# EAGLE library part XC3S1500 (library untitled)
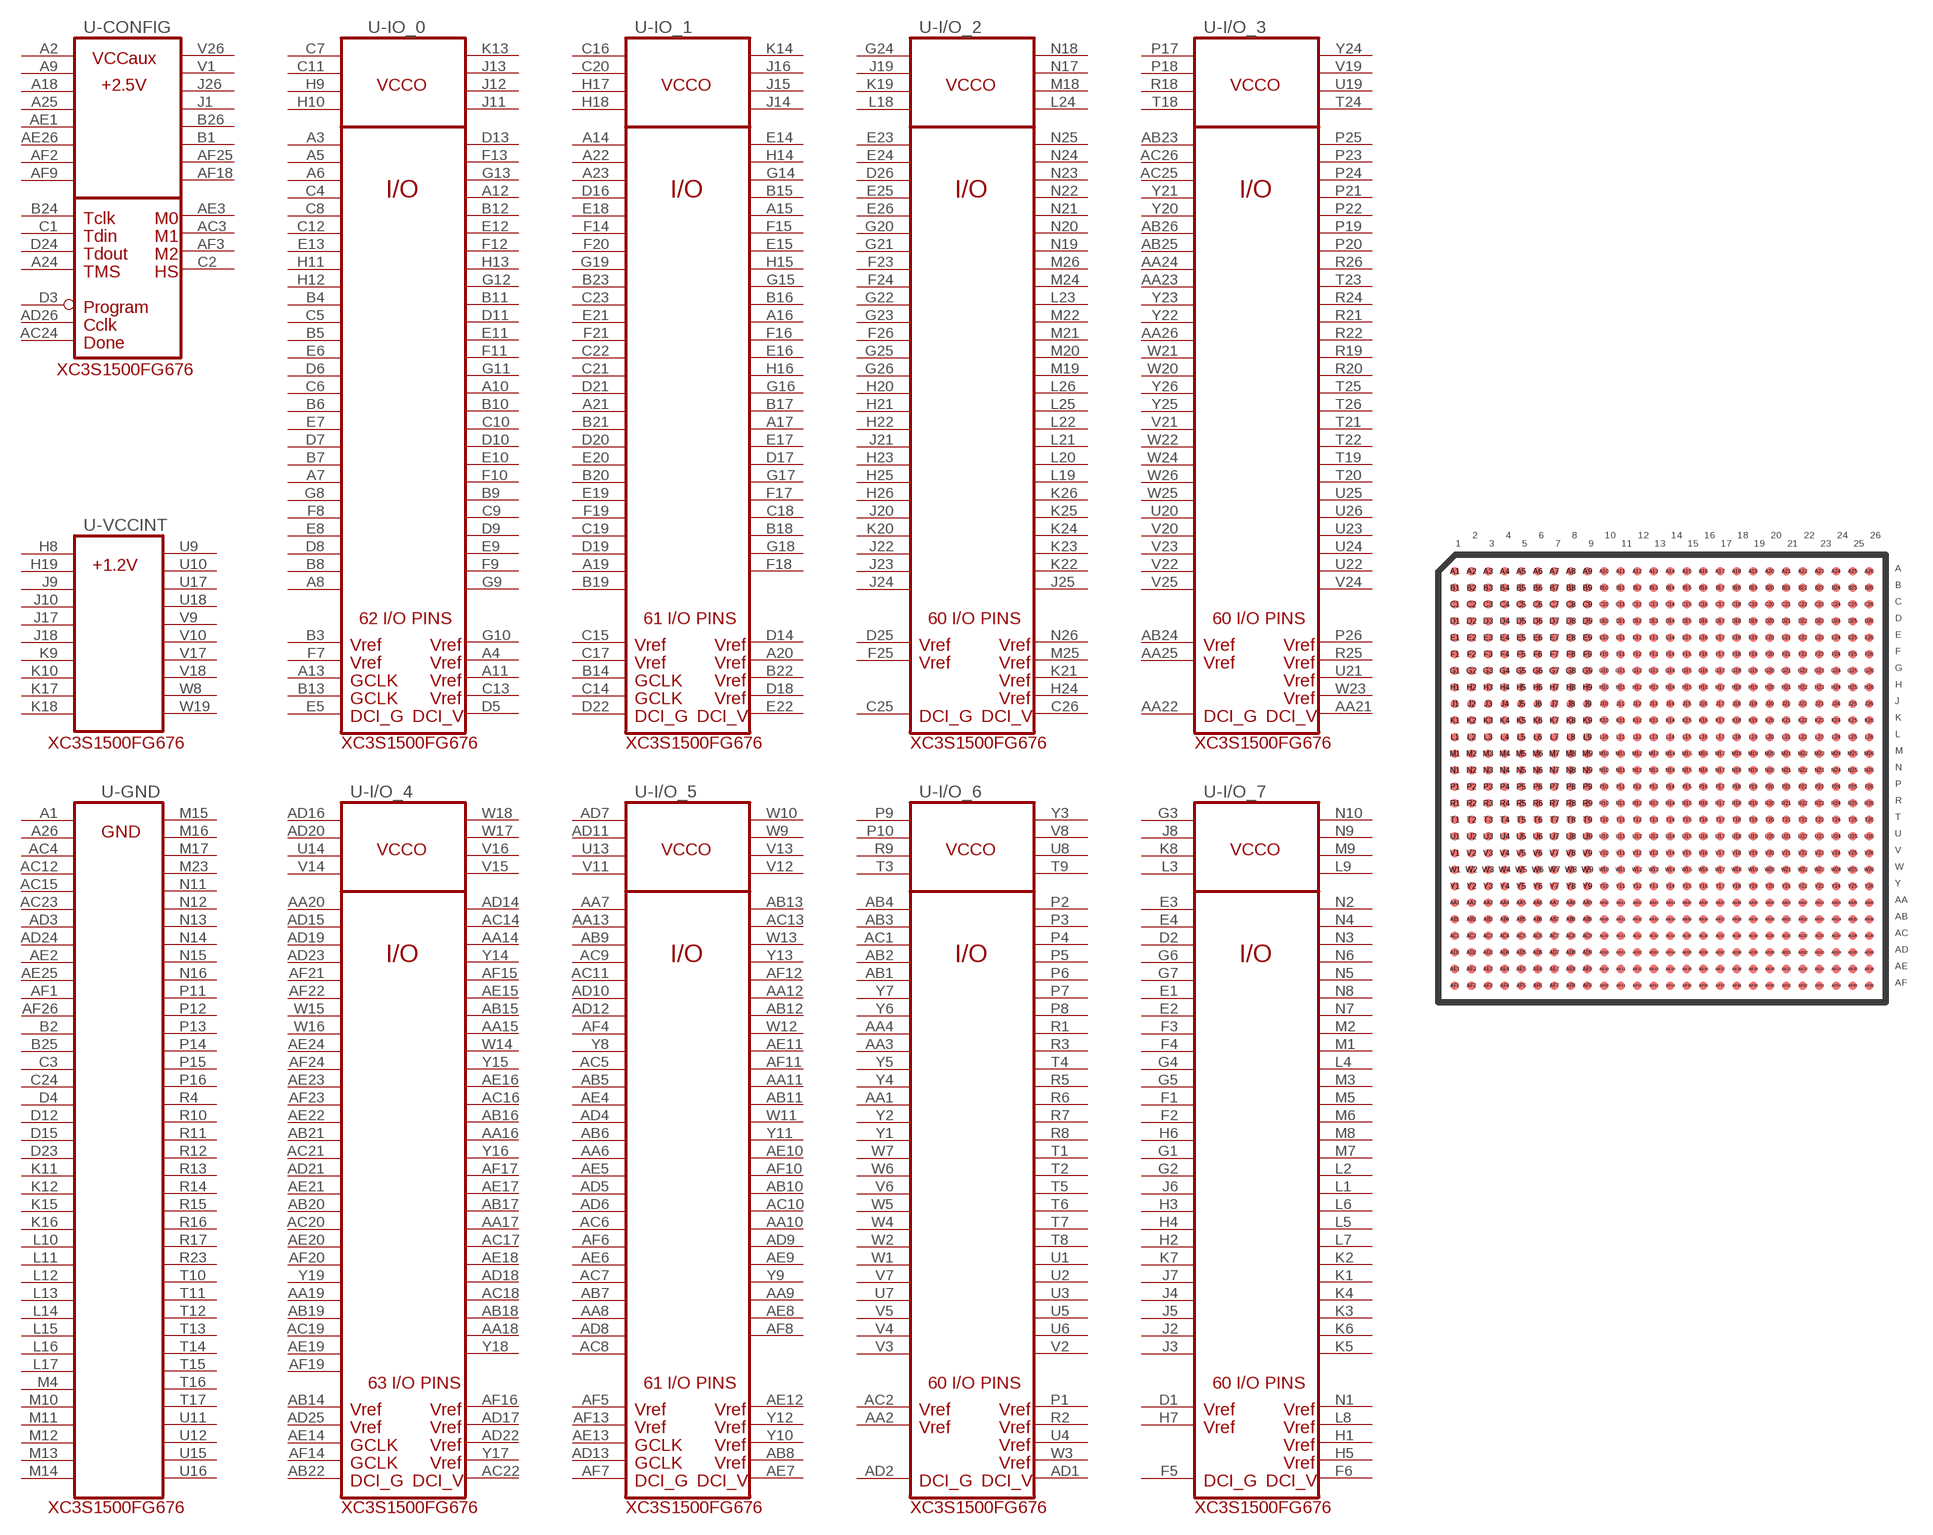
[diagram p0: symbol with the pads of FG676; footprint FG676]

Designator prefix -; gates -GND=XC3S1500_GND -VCCINT=XC3S1500_VCCINT -IO_0=XC3S1500_IO_0 -IO_1=XC3S1500_IO_1 -I/O_2=XC3S1500_IO_2 -I/O_3=XC3S1500_IO_3 -I/O_4=XC3S1500_IO_4 -I/O_5=XC3S1500_IO_5 -I/O_6=XC3S1500_IO_6 -I/O_7=XC3S1500_IO_7 -CONFIG=XC3S1500_CONFIG

## XC3S1500  [FG676]
A1  -GND:A1  pas
A2  -CONFIG:A2  pas
A3  -IO_0:A3  pas
A4  -IO_0:A4  pas
A5  -IO_0:A5  pas
A6  -IO_0:A6  pas
A7  -IO_0:A7  pas
A8  -IO_0:A8  pas
A9  -CONFIG:A9  pas
A10  -IO_0:A10  pas
A11  -IO_0:A11  pas
A12  -IO_0:A12  pas
A13  -IO_0:A13  pas
A14  -IO_1:A14  pas
A15  -IO_1:A15  pas
A16  -IO_1:A16  pas
A17  -IO_1:A17  pas
A18  -CONFIG:A18  pas
A19  -IO_1:A19  pas
A20  -IO_1:A20  pas
A21  -IO_1:A21  pas
A22  -IO_1:A22  pas
A23  -IO_1:A23  pas
A24  -CONFIG:A24  pas
A25  -CONFIG:A25  pas
A26  -GND:A26  pas
AA1  -I/O_6:AA1  pas
AA2  -I/O_6:AA2  pas
AA3  -I/O_6:AA3  pas
AA4  -I/O_6:AA4  pas
AA6  -I/O_5:AA6  pas
AA7  -I/O_5:AA7  pas
AA8  -I/O_5:AA8  pas
AA9  -I/O_5:AA9  pas
AA10  -I/O_5:AA10  pas
AA11  -I/O_5:AA11  pas
AA12  -I/O_5:AA12  pas
AA13  -I/O_5:AA13  pas
AA14  -I/O_4:AA14  pas
AA15  -I/O_4:AA15  pas
AA16  -I/O_4:AA16  pas
AA17  -I/O_4:AA17  pas
AA18  -I/O_4:AA18  pas
AA19  -I/O_4:AA19  pas
AA20  -I/O_4:AA20  pas
AA21  -I/O_3:AA21  pas
AA22  -I/O_3:AA22  pas
AA23  -I/O_3:AA23  pas
AA24  -I/O_3:AA24  pas
AA25  -I/O_3:AA25  pas
AA26  -I/O_3:AA26  pas
AB1  -I/O_6:AB1  pas
AB2  -I/O_6:AB2  pas
AB3  -I/O_6:AB3  pas
AB4  -I/O_6:AB4  pas
AB5  -I/O_5:AB5  pas
AB6  -I/O_5:AB6  pas
AB7  -I/O_5:AB7  pas
AB8  -I/O_5:AB8  pas
AB9  -I/O_5:AB9  pas
AB10  -I/O_5:AB10  pas
AB11  -I/O_5:AB11  pas
AB12  -I/O_5:AB12  pas
AB13  -I/O_5:AB13  pas
AB14  -I/O_4:AB14  pas
AB15  -I/O_4:AB15  pas
AB16  -I/O_4:AB16  pas
AB17  -I/O_4:AB17  pas
AB18  -I/O_4:AB18  pas
AB19  -I/O_4:AB19  pas
AB20  -I/O_4:AB20  pas
AB21  -I/O_4:AB21  pas
AB22  -I/O_4:AB22  pas
AB23  -I/O_3:AB23  pas
AB24  -I/O_3:AB24  pas
AB25  -I/O_3:AB25  pas
AB26  -I/O_3:AB26  pas
AC1  -I/O_6:AC1  pas
AC2  -I/O_6:AC2  pas
AC3  -CONFIG:AC3  pas
AC4  -GND:AC4  pas
AC5  -I/O_5:AC5  pas
AC6  -I/O_5:AC6  pas
AC7  -I/O_5:AC7  pas
AC8  -I/O_5:AC8  pas
AC9  -I/O_5:AC9  pas
AC10  -I/O_5:AC10  pas
AC11  -I/O_5:AC11  pas
AC12  -GND:AC12  pas
AC13  -I/O_5:AC13  pas
AC14  -I/O_4:AC14  pas
AC15  -GND:AC15  pas
AC16  -I/O_4:AC16  pas
AC17  -I/O_4:AC17  pas
AC18  -I/O_4:AC18  pas
AC19  -I/O_4:AC19  pas
AC20  -I/O_4:AC20  pas
AC21  -I/O_4:AC21  pas
AC22  -I/O_4:AC22  pas
AC23  -GND:AC23  pas
AC24  -CONFIG:AC24  pas
AC25  -I/O_3:AC25  pas
AC26  -I/O_3:AC26  pas
AD1  -I/O_6:AD1  pas
AD2  -I/O_6:AD2  pas
AD3  -GND:AD3  pas
AD4  -I/O_5:AD4  pas
AD5  -I/O_5:AD5  pas
AD6  -I/O_5:AD6  pas
AD7  -I/O_5:AD7  pas
AD8  -I/O_5:AD8  pas
AD9  -I/O_5:AD9  pas
AD10  -I/O_5:AD10  pas
AD11  -I/O_5:AD11  pas
AD12  -I/O_5:AD12  pas
AD13  -I/O_5:AD13  pas
AD14  -I/O_4:AD14  pas
AD15  -I/O_4:AD15  pas
AD16  -I/O_4:AD16  pas
AD17  -I/O_4:AD17  pas
AD18  -I/O_4:AD18  pas
AD19  -I/O_4:AD19  pas
AD20  -I/O_4:AD20  pas
AD21  -I/O_4:AD21  pas
AD22  -I/O_4:AD22  pas
AD23  -I/O_4:AD23  pas
AD24  -GND:AD24  pas
AD25  -I/O_4:AD25  pas
AD26  -CONFIG:AD26  pas
AE1  -CONFIG:AE1  pas
AE2  -GND:AE2  pas
AE3  -CONFIG:AE3  pas
AE4  -I/O_5:AE4  pas
AE5  -I/O_5:AE5  pas
AE6  -I/O_5:AE6  pas
AE7  -I/O_5:AE7  pas
AE8  -I/O_5:AE8  pas
AE9  -I/O_5:AE9  pas
AE10  -I/O_5:AE10  pas
AE11  -I/O_5:AE11  pas
AE12  -I/O_5:AE12  pas
AE13  -I/O_5:AE13  pas
AE14  -I/O_4:AE14  pas
AE15  -I/O_4:AE15  pas
AE16  -I/O_4:AE16  pas
AE17  -I/O_4:AE17  pas
AE18  -I/O_4:AE18  pas
AE19  -I/O_4:AE19  pas
AE20  -I/O_4:AE20  pas
AE21  -I/O_4:AE21  pas
AE22  -I/O_4:AE22  pas
AE23  -I/O_4:AE23  pas
AE24  -I/O_4:AE24  pas
AE25  -GND:AE25  pas
AE26  -CONFIG:AE26  pas
AF1  -GND:AF1  pas
AF2  -CONFIG:AF2  pas
AF3  -CONFIG:AF3  pas
AF4  -I/O_5:AF4  pas
AF5  -I/O_5:AF5  pas
AF6  -I/O_5:AF6  pas
AF7  -I/O_5:AF7  pas
AF8  -I/O_5:AF8  pas
AF9  -CONFIG:AF9  pas
AF10  -I/O_5:AF10  pas
AF11  -I/O_5:AF11  pas
AF12  -I/O_5:AF12  pas
AF13  -I/O_5:AF13  pas
AF14  -I/O_4:AF14  pas
AF15  -I/O_4:AF15  pas
AF16  -I/O_4:AF16  pas
AF17  -I/O_4:AF17  pas
AF18  -CONFIG:AF18  pas
AF19  -I/O_4:AF19  pas
AF20  -I/O_4:AF20  pas
AF21  -I/O_4:AF21  pas
AF22  -I/O_4:AF22  pas
AF23  -I/O_4:AF23  pas
AF24  -I/O_4:AF24  pas
AF25  -CONFIG:AF25  pas
AF26  -GND:AF26  pas
B1  -CONFIG:B1  pas
B2  -GND:B2  pas
B3  -IO_0:B3  pas
B4  -IO_0:B4  pas
B5  -IO_0:B5  pas
B6  -IO_0:B6  pas
B7  -IO_0:B7  pas
B8  -IO_0:B8  pas
B9  -IO_0:B9  pas
B10  -IO_0:B10  pas
B11  -IO_0:B11  pas
B12  -IO_0:B12  pas
B13  -IO_0:B13  pas
B14  -IO_1:B14  pas
B15  -IO_1:B15  pas
B16  -IO_1:B16  pas
B17  -IO_1:B17  pas
B18  -IO_1:B18  pas
B19  -IO_1:B19  pas
B20  -IO_1:B20  pas
B21  -IO_1:B21  pas
B22  -IO_1:B22  pas
B23  -IO_1:B23  pas
B24  -CONFIG:B24  pas
B25  -GND:B25  pas
B26  -CONFIG:B26  pas
C1  -CONFIG:C1  pas
C2  -CONFIG:C2  pas
C3  -GND:C3  pas
C4  -IO_0:C4  pas
C5  -IO_0:C5  pas
C6  -IO_0:C6  pas
C7  -IO_0:C7  pas
C8  -IO_0:C8  pas
C9  -IO_0:C9  pas
C10  -IO_0:C10  pas
C11  -IO_0:C11  pas
C12  -IO_0:C12  pas
C13  -IO_0:C13  pas
C14  -IO_1:C14  pas
C15  -IO_1:C15  pas
C16  -IO_1:C16  pas
C17  -IO_1:C17  pas
C18  -IO_1:C18  pas
C19  -IO_1:C19  pas
C20  -IO_1:C20  pas
C21  -IO_1:C21  pas
C22  -IO_1:C22  pas
C23  -IO_1:C23  pas
C24  -GND:C24  pas
C25  -I/O_2:C25  pas
C26  -I/O_2:C26  pas
D1  -I/O_7:D1  pas
D2  -I/O_7:D2  pas
D3  -CONFIG:D3  pas
D4  -GND:D4  pas
D5  -IO_0:D5  pas
D6  -IO_0:D6  pas
D7  -IO_0:D7  pas
D8  -IO_0:D8  pas
D9  -IO_0:D9  pas
D10  -IO_0:D10  pas
D11  -IO_0:D11  pas
D12  -GND:D12  pas
D13  -IO_0:D13  pas
D14  -IO_1:D14  pas
D15  -GND:D15  pas
D16  -IO_1:D16  pas
D17  -IO_1:D17  pas
D18  -IO_1:D18  pas
D19  -IO_1:D19  pas
D20  -IO_1:D20  pas
D21  -IO_1:D21  pas
D22  -IO_1:D22  pas
D23  -GND:D23  pas
D24  -CONFIG:D24  pas
D25  -I/O_2:D25  pas
D26  -I/O_2:D26  pas
E1  -I/O_7:E1  pas
E2  -I/O_7:E2  pas
E3  -I/O_7:E3  pas
E4  -I/O_7:E4  pas
E5  -IO_0:E5  pas
E6  -IO_0:E6  pas
E7  -IO_0:E7  pas
E8  -IO_0:E8  pas
E9  -IO_0:E9  pas
E10  -IO_0:E10  pas
E11  -IO_0:E11  pas
E12  -IO_0:E12  pas
E13  -IO_0:E13  pas
E14  -IO_1:E14  pas
E15  -IO_1:E15  pas
E16  -IO_1:E16  pas
E17  -IO_1:E17  pas
E18  -IO_1:E18  pas
E19  -IO_1:E19  pas
E20  -IO_1:E20  pas
E21  -IO_1:E21  pas
E22  -IO_1:E22  pas
E23  -I/O_2:E23  pas
E24  -I/O_2:E24  pas
E25  -I/O_2:E25  pas
E26  -I/O_2:E26  pas
F1  -I/O_7:F1  pas
F2  -I/O_7:F2  pas
F3  -I/O_7:F3  pas
F4  -I/O_7:F4  pas
F5  -I/O_7:F5  pas
F6  -I/O_7:F6  pas
F7  -IO_0:F7  pas
F8  -IO_0:F8  pas
F9  -IO_0:F9  pas
F10  -IO_0:F10  pas
F11  -IO_0:F11  pas
F12  -IO_0:F12  pas
F13  -IO_0:F13  pas
F14  -IO_1:F14  pas
F15  -IO_1:F15  pas
F16  -IO_1:F16  pas
F17  -IO_1:F17  pas
F18  -IO_1:F18  pas
F19  -IO_1:F19  pas
F20  -IO_1:F20  pas
F21  -IO_1:F21  pas
F23  -I/O_2:F23  pas
F24  -I/O_2:F24  pas
F25  -I/O_2:F25  pas
F26  -I/O_2:F26  pas
G1  -I/O_7:G1  pas
G2  -I/O_7:G2  pas
G3  -I/O_7:G3  pas
G4  -I/O_7:G4  pas
G5  -I/O_7:G5  pas
G6  -I/O_7:G6  pas
G7  -I/O_7:G7  pas
G8  -IO_0:G8  pas
G9  -IO_0:G9  pas
G10  -IO_0:G10  pas
G11  -IO_0:G11  pas
G12  -IO_0:G12  pas
G13  -IO_0:G13  pas
G14  -IO_1:G14  pas
G15  -IO_1:G15  pas
G16  -IO_1:G16  pas
G17  -IO_1:G17  pas
G18  -IO_1:G18  pas
G19  -IO_1:G19  pas
G20  -I/O_2:G20  pas
G21  -I/O_2:G21  pas
G22  -I/O_2:G22  pas
G23  -I/O_2:G23  pas
G24  -I/O_2:G24  pas
G25  -I/O_2:G25  pas
G26  -I/O_2:G26  pas
H1  -I/O_7:H1  pas
H2  -I/O_7:H2  pas
H3  -I/O_7:H3  pas
H4  -I/O_7:H4  pas
H5  -I/O_7:H5  pas
H6  -I/O_7:H6  pas
H7  -I/O_7:H7  pas
H8  -VCCINT:H8  pas
H9  -IO_0:H9  pas
H10  -IO_0:H10  pas
H11  -IO_0:H11  pas
H12  -IO_0:H12  pas
H13  -IO_0:H13  pas
H14  -IO_1:H14  pas
H15  -IO_1:H15  pas
H16  -IO_1:H16  pas
H17  -IO_1:H17  pas
H18  -IO_1:H18  pas
H19  -VCCINT:H19  pas
H20  -I/O_2:H20  pas
H21  -I/O_2:H21  pas
H22  -I/O_2:H22  pas
H23  -I/O_2:H23  pas
H24  -I/O_2:H24  pas
H25  -I/O_2:H25  pas
H26  -I/O_2:H26  pas
J1  -CONFIG:J1  pas
J2  -I/O_7:J2  pas
J3  -I/O_7:J3  pas
J4  -I/O_7:J4  pas
J5  -I/O_7:J5  pas
J6  -I/O_7:J6  pas
J7  -I/O_7:J7  pas
J8  -I/O_7:J8  pas
J9  -VCCINT:J9  pas
J10  -VCCINT:J10  pas
J11  -IO_0:J11  pas
J12  -IO_0:J12  pas
J13  -IO_0:J13  pas
J14  -IO_1:J14  pas
J15  -IO_1:J15  pas
J16  -IO_1:J16  pas
J17  -VCCINT:J17  pas
J18  -VCCINT:J18  pas
J19  -I/O_2:J19  pas
J20  -I/O_2:J20  pas
J21  -I/O_2:J21  pas
J22  -I/O_2:J22  pas
J23  -I/O_2:J23  pas
J24  -I/O_2:J24  pas
J25  -I/O_2:J25  pas
J26  -CONFIG:J26  pas
K1  -I/O_7:K1  pas
K2  -I/O_7:K2  pas
K3  -I/O_7:K3  pas
K4  -I/O_7:K4  pas
K5  -I/O_7:K5  pas
K6  -I/O_7:K6  pas
K7  -I/O_7:K7  pas
K8  -I/O_7:K8  pas
K9  -VCCINT:K9  pas
K10  -VCCINT:K10  pas
K11  -GND:K11  pas
K12  -GND:K12  pas
K13  -IO_0:K13  pas
K14  -IO_1:K14  pas
K15  -GND:K15  pas
K16  -GND:K16  pas
K17  -VCCINT:K17  pas
K18  -VCCINT:K18  pas
K19  -I/O_2:K19  pas
K20  -I/O_2:K20  pas
K21  -I/O_2:K21  pas
K22  -I/O_2:K22  pas
K23  -I/O_2:K23  pas
K24  -I/O_2:K24  pas
K25  -I/O_2:K25  pas
K26  -I/O_2:K26  pas
L1  -I/O_7:L1  pas
L2  -I/O_7:L2  pas
L3  -I/O_7:L3  pas
L4  -I/O_7:L4  pas
L5  -I/O_7:L5  pas
L6  -I/O_7:L6  pas
L7  -I/O_7:L7  pas
L8  -I/O_7:L8  pas
L9  -I/O_7:L9  pas
L10  -GND:L10  pas
L11  -GND:L11  pas
L12  -GND:L12  pas
L13  -GND:L13  pas
L14  -GND:L14  pas
L15  -GND:L15  pas
L16  -GND:L16  pas
L17  -GND:L17  pas
L18  -I/O_2:L18  pas
L19  -I/O_2:L19  pas
L20  -I/O_2:L20  pas
L21  -I/O_2:L21  pas
L22  -I/O_2:L22  pas
L23  -I/O_2:L23  pas
L24  -I/O_2:L24  pas
L25  -I/O_2:L25  pas
L26  -I/O_2:L26  pas
M1  -I/O_7:M1  pas
M2  -I/O_7:M2  pas
M3  -I/O_7:M3  pas
M4  -GND:M4  pas
M5  -I/O_7:M5  pas
M6  -I/O_7:M6  pas
M7  -I/O_7:M7  pas
M8  -I/O_7:M8  pas
M9  -I/O_7:M9  pas
M10  -GND:M10  pas
M11  -GND:M11  pas
M12  -GND:M12  pas
M13  -GND:M13  pas
M14  -GND:M14  pas
M15  -GND:M15  pas
M16  -GND:M16  pas
M17  -GND:M17  pas
M18  -I/O_2:M18  pas
M19  -I/O_2:M19  pas
M20  -I/O_2:M20  pas
M21  -I/O_2:M21  pas
M22  -I/O_2:M22  pas
M23  -GND:M23  pas
M24  -I/O_2:M24  pas
M25  -I/O_2:M25  pas
M26  -I/O_2:M26  pas
N1  -I/O_7:N1  pas
N2  -I/O_7:N2  pas
N3  -I/O_7:N3  pas
N4  -I/O_7:N4  pas
N5  -I/O_7:N5  pas
N6  -I/O_7:N6  pas
N7  -I/O_7:N7  pas
N8  -I/O_7:N8  pas
N9  -I/O_7:N9  pas
N10  -I/O_7:N10  pas
N11  -GND:N11  pas
N12  -GND:N12  pas
N13  -GND:N13  pas
N14  -GND:N14  pas
N15  -GND:N15  pas
N16  -GND:N16  pas
N17  -I/O_2:N17  pas
N18  -I/O_2:N18  pas
N19  -I/O_2:N19  pas
N20  -I/O_2:N20  pas
N21  -I/O_2:N21  pas
N22  -I/O_2:N22  pas
N23  -I/O_2:N23  pas
N24  -I/O_2:N24  pas
N25  -I/O_2:N25  pas
N26  -I/O_2:N26  pas
P1  -I/O_6:P1  pas
P2  -I/O_6:P2  pas
P3  -I/O_6:P3  pas
P4  -I/O_6:P4  pas
P5  -I/O_6:P5  pas
P6  -I/O_6:P6  pas
P7  -I/O_6:P7  pas
P8  -I/O_6:P8  pas
P9  -I/O_6:P9  pas
P10  -I/O_6:P10  pas
P11  -GND:P11  pas
P12  -GND:P12  pas
P13  -GND:P13  pas
P14  -GND:P14  pas
P15  -GND:P15  pas
P16  -GND:P16  pas
P17  -I/O_3:P17  pas
P18  -I/O_3:P18  pas
P19  -I/O_3:P19  pas
P20  -I/O_3:P20  pas
P21  -I/O_3:P21  pas
P22  -I/O_3:P22  pas
P23  -I/O_3:P23  pas
P24  -I/O_3:P24  pas
P25  -I/O_3:P25  pas
P26  -I/O_3:P26  pas
R1  -I/O_6:R1  pas
R2  -I/O_6:R2  pas
R3  -I/O_6:R3  pas
R4  -GND:R4  pas
R5  -I/O_6:R5  pas
R6  -I/O_6:R6  pas
R7  -I/O_6:R7  pas
R8  -I/O_6:R8  pas
R9  -I/O_6:R9  pas
R10  -GND:R10  pas
R11  -GND:R11  pas
R12  -GND:R12  pas
R13  -GND:R13  pas
R14  -GND:R14  pas
R15  -GND:R15  pas
R16  -GND:R16  pas
R17  -GND:R17  pas
R18  -I/O_3:R18  pas
R19  -I/O_3:R19  pas
R20  -I/O_3:R20  pas
R21  -I/O_3:R21  pas
R22  -I/O_3:R22  pas
R23  -GND:R23  pas
R24  -I/O_3:R24  pas
R25  -I/O_3:R25  pas
R26  -I/O_3:R26  pas
T1  -I/O_6:T1  pas
T2  -I/O_6:T2  pas
T3  -I/O_6:T3  pas
T4  -I/O_6:T4  pas
T5  -I/O_6:T5  pas
T6  -I/O_6:T6  pas
T7  -I/O_6:T7  pas
T8  -I/O_6:T8  pas
T9  -I/O_6:T9  pas
T10  -GND:T10  pas
T11  -GND:T11  pas
T12  -GND:T12  pas
T13  -GND:T13  pas
T14  -GND:T14  pas
T15  -GND:T15  pas
T16  -GND:T16  pas
T17  -GND:T17  pas
T18  -I/O_3:T18  pas
T19  -I/O_3:T19  pas
T20  -I/O_3:T20  pas
T21  -I/O_3:T21  pas
T22  -I/O_3:T22  pas
T23  -I/O_3:T23  pas
T24  -I/O_3:T24  pas
T25  -I/O_3:T25  pas
T26  -I/O_3:T26  pas
U1  -I/O_6:U1  pas
U2  -I/O_6:U2  pas
U3  -I/O_6:U3  pas
U4  -I/O_6:U4  pas
U5  -I/O_6:U5  pas
U6  -I/O_6:U6  pas
U7  -I/O_6:U7  pas
U8  -I/O_6:U8  pas
U9  -VCCINT:U9  pas
U10  -VCCINT:U10  pas
U11  -GND:U11  pas
U12  -GND:U12  pas
U13  -I/O_5:U13  pas
U14  -I/O_4:U14  pas
U15  -GND:U15  pas
U16  -GND:U16  pas
U17  -VCCINT:U17  pas
U18  -VCCINT:U18  pas
U19  -I/O_3:U19  pas
U20  -I/O_3:U20  pas
U21  -I/O_3:U21  pas
U22  -I/O_3:U22  pas
U23  -I/O_3:U23  pas
U24  -I/O_3:U24  pas
U25  -I/O_3:U25  pas
U26  -I/O_3:U26  pas
V1  -CONFIG:V1  pas
V2  -I/O_6:V2  pas
V3  -I/O_6:V3  pas
V4  -I/O_6:V4  pas
V5  -I/O_6:V5  pas
V6  -I/O_6:V6  pas
V7  -I/O_6:V7  pas
V8  -I/O_6:V8  pas
V9  -VCCINT:V9  pas
V10  -VCCINT:V10  pas
V11  -I/O_5:V11  pas
V12  -I/O_5:V12  pas
V13  -I/O_5:V13  pas
V14  -I/O_4:V14  pas
V15  -I/O_4:V15  pas
V16  -I/O_4:V16  pas
V17  -VCCINT:V17  pas
V18  -VCCINT:V18  pas
V19  -I/O_3:V19  pas
V20  -I/O_3:V20  pas
V21  -I/O_3:V21  pas
V22  -I/O_3:V22  pas
V23  -I/O_3:V23  pas
V24  -I/O_3:V24  pas
V25  -I/O_3:V25  pas
V26  -CONFIG:V26  pas
W1  -I/O_6:W1  pas
W2  -I/O_6:W2  pas
W3  -I/O_6:W3  pas
W4  -I/O_6:W4  pas
W5  -I/O_6:W5  pas
W6  -I/O_6:W6  pas
W7  -I/O_6:W7  pas
W8  -VCCINT:W8  pas
W9  -I/O_5:W9  pas
W10  -I/O_5:W10  pas
W11  -I/O_5:W11  pas
W12  -I/O_5:W12  pas
W13  -I/O_5:W13  pas
W14  -I/O_4:W14  pas
W15  -I/O_4:W15  pas
W16  -I/O_4:W16  pas
W17  -I/O_4:W17  pas
W18  -I/O_4:W18  pas
W19  -VCCINT:W19  pas
W20  -I/O_3:W20  pas
W21  -I/O_3:W21  pas
W22  -I/O_3:W22  pas
W23  -I/O_3:W23  pas
W24  -I/O_3:W24  pas
W25  -I/O_3:W25  pas
W26  -I/O_3:W26  pas
Y1  -I/O_6:Y1  pas
Y2  -I/O_6:Y2  pas
Y3  -I/O_6:Y3  pas
Y4  -I/O_6:Y4  pas
Y5  -I/O_6:Y5  pas
Y6  -I/O_6:Y6  pas
Y7  -I/O_6:Y7  pas
Y8  -I/O_5:Y8  pas
Y9  -I/O_5:Y9  pas
Y10  -I/O_5:Y10  pas
Y11  -I/O_5:Y11  pas
Y12  -I/O_5:Y12  pas
Y13  -I/O_5:Y13  pas
Y14  -I/O_4:Y14  pas
Y15  -I/O_4:Y15  pas
Y16  -I/O_4:Y16  pas
Y17  -I/O_4:Y17  pas
Y18  -I/O_4:Y18  pas
Y19  -I/O_4:Y19  pas
Y20  -I/O_3:Y20  pas
Y21  -I/O_3:Y21  pas
Y22  -I/O_3:Y22  pas
Y23  -I/O_3:Y23  pas
Y24  -I/O_3:Y24  pas
Y25  -I/O_3:Y25  pas
Y26  -I/O_3:Y26  pas

## Footprint FG676 (pad centres in mm)
FF1517 Fine-Pitch BGA (1mm pitch)
smd 0.5 x 0.5: A1 -19,19; A2 -18,19; A3 -17,19; A4 -16,19; A5 -15,19; A6 -14,19; A7 -13,19; A8 -12,19; A9 -11,19; A10 -10,19; A11 -9,19; A12 -8,19; A13 -7,19; A14 -6,19; A15 -5,19; A16 -4,19; A17 -3,19; A18 -2,19; A19 -1,19; A20 0,19; A21 1,19; A22 2,19; A23 3,19; A24 4,19; A25 5,19; A26 6,19; AA1 -19,-1; AA2 -18,-1; AA3 -17,-1; AA4 -16,-1; AA5 -15,-1; AA6 -14,-1; AA7 -13,-1; AA8 -12,-1; AA9 -11,-1; AA10 -10,-1; AA11 -9,-1; AA12 -8,-1; AA13 -7,-1; AA14 -6,-1; AA15 -5,-1; AA16 -4,-1; AA17 -3,-1; AA18 -2,-1; AA19 -1,-1; AA20 0,-1; AA21 1,-1; AA22 2,-1; AA23 3,-1; AA24 4,-1; AA25 5,-1; AA26 6,-1; AB1 -19,-2; AB2 -18,-2; AB3 -17,-2; AB4 -16,-2; AB5 -15,-2; AB6 -14,-2; AB7 -13,-2; AB8 -12,-2; AB9 -11,-2; AB10 -10,-2; AB11 -9,-2; AB12 -8,-2; AB13 -7,-2; AB14 -6,-2; AB15 -5,-2; AB16 -4,-2; AB17 -3,-2; AB18 -2,-2; AB19 -1,-2; AB20 0,-2; AB21 1,-2; AB22 2,-2; AB23 3,-2; AB24 4,-2; AB25 5,-2; AB26 6,-2; AC1 -19,-3; AC2 -18,-3; AC3 -17,-3; AC4 -16,-3; AC5 -15,-3; AC6 -14,-3; AC7 -13,-3; AC8 -12,-3; AC9 -11,-3; AC10 -10,-3; AC11 -9,-3; AC12 -8,-3; AC13 -7,-3; AC14 -6,-3; AC15 -5,-3; AC16 -4,-3; AC17 -3,-3; AC18 -2,-3; AC19 -1,-3; AC20 0,-3; AC21 1,-3; AC22 2,-3; AC23 3,-3; AC24 4,-3; AC25 5,-3; AC26 6,-3; AD1 -19,-4; AD2 -18,-4; AD3 -17,-4; AD4 -16,-4; AD5 -15,-4; AD6 -14,-4; AD7 -13,-4; AD8 -12,-4; AD9 -11,-4; AD10 -10,-4; AD11 -9,-4; AD12 -8,-4; AD13 -7,-4; AD14 -6,-4; AD15 -5,-4; AD16 -4,-4; AD17 -3,-4; AD18 -2,-4; AD19 -1,-4; AD20 0,-4; AD21 1,-4; AD22 2,-4; AD23 3,-4; AD24 4,-4; AD25 5,-4; AD26 6,-4; AE1 -19,-5; AE2 -18,-5; AE3 -17,-5; AE4 -16,-5; AE5 -15,-5; AE6 -14,-5; AE7 -13,-5; AE8 -12,-5; AE9 -11,-5; AE10 -10,-5; AE11 -9,-5; AE12 -8,-5; AE13 -7,-5; AE14 -6,-5; AE15 -5,-5; AE16 -4,-5; AE17 -3,-5; AE18 -2,-5; AE19 -1,-5; AE20 0,-5; AE21 1,-5; AE22 2,-5; AE23 3,-5; AE24 4,-5; AE25 5,-5; AE26 6,-5; AF1 -19,-6; AF2 -18,-6; AF3 -17,-6; AF4 -16,-6; AF5 -15,-6; AF6 -14,-6; AF7 -13,-6; AF8 -12,-6; AF9 -11,-6; AF10 -10,-6; AF11 -9,-6; AF12 -8,-6; AF13 -7,-6; AF14 -6,-6; AF15 -5,-6; AF16 -4,-6; AF17 -3,-6; AF18 -2,-6; AF19 -1,-6; AF20 0,-6; AF21 1,-6; AF22 2,-6; AF23 3,-6; AF24 4,-6; AF25 5,-6; AF26 6,-6; B1 -19,18; B2 -18,18; B3 -17,18; B4 -16,18; B5 -15,18; B6 -14,18; B7 -13,18; B8 -12,18; B9 -11,18; B10 -10,18; B11 -9,18; B12 -8,18; B13 -7,18; B14 -6,18; B15 -5,18; B16 -4,18; B17 -3,18; B18 -2,18; B19 -1,18; B20 0,18; B21 1,18; B22 2,18; B23 3,18; B24 4,18; B25 5,18; B26 6,18; C1 -19,17; C2 -18,17; C3 -17,17; C4 -16,17; C5 -15,17; C6 -14,17; C7 -13,17; C8 -12,17; C9 -11,17; C10 -10,17; C11 -9,17; C12 -8,17; C13 -7,17; C14 -6,17; C15 -5,17; C16 -4,17; C17 -3,17; C18 -2,17; C19 -1,17; C20 0,17; C21 1,17; C22 2,17; C23 3,17; C24 4,17; C25 5,17; C26 6,17; D1 -19,16; D2 -18,16; D3 -17,16; D4 -16,16; D5 -15,16; D6 -14,16; D7 -13,16; D8 -12,16; D9 -11,16; D10 -10,16; D11 -9,16; D12 -8,16; D13 -7,16; D14 -6,16; D15 -5,16; D16 -4,16; D17 -3,16; D18 -2,16; D19 -1,16; D20 0,16; D21 1,16; D22 2,16; D23 3,16; D24 4,16; D25 5,16; D26 6,16; E1 -19,15; E2 -18,15; E3 -17,15; E4 -16,15; E5 -15,15; E6 -14,15; E7 -13,15; E8 -12,15; E9 -11,15; E10 -10,15; E11 -9,15; E12 -8,15; E13 -7,15; E14 -6,15; E15 -5,15; E16 -4,15; E17 -3,15; E18 -2,15; E19 -1,15; E20 0,15; E21 1,15; E22 2,15; E23 3,15; E24 4,15; E25 5,15; E26 6,15; F1 -19,14; F2 -18,14; F3 -17,14; F4 -16,14; F5 -15,14; F6 -14,14; F7 -13,14; F8 -12,14; F9 -11,14; F10 -10,14; F11 -9,14; F12 -8,14; F13 -7,14; F14 -6,14; F15 -5,14; F16 -4,14; F17 -3,14; F18 -2,14; F19 -1,14; F20 0,14; F21 1,14; F22 2,14; F23 3,14; F24 4,14; F25 5,14; F26 6,14; G1 -19,13; G2 -18,13; G3 -17,13; G4 -16,13; G5 -15,13; G6 -14,13; G7 -13,13; G8 -12,13; G9 -11,13; G10 -10,13; G11 -9,13; G12 -8,13; G13 -7,13; G14 -6,13; G15 -5,13; G16 -4,13; G17 -3,13; G18 -2,13; G19 -1,13; G20 0,13; G21 1,13; G22 2,13; G23 3,13; G24 4,13; G25 5,13; G26 6,13; H1 -19,12; H2 -18,12; H3 -17,12; H4 -16,12; H5 -15,12; H6 -14,12; H7 -13,12; H8 -12,12; H9 -11,12; H10 -10,12; H11 -9,12; H12 -8,12; H13 -7,12; H14 -6,12; H15 -5,12; H16 -4,12; H17 -3,12; H18 -2,12; H19 -1,12; H20 0,12; H21 1,12; H22 2,12; H23 3,12; H24 4,12; H25 5,12; H26 6,12; J1 -19,11; J2 -18,11; J3 -17,11; J4 -16,11; J5 -15,11; J6 -14,11; J7 -13,11; J8 -12,11; J9 -11,11; J10 -10,11; J11 -9,11; J12 -8,11; J13 -7,11; J14 -6,11; J15 -5,11; J16 -4,11; J17 -3,11; J18 -2,11; J19 -1,11; J20 0,11; J21 1,11; J22 2,11; J23 3,11; J24 4,11; J25 5,11; J26 6,11; K1 -19,10; K2 -18,10; K3 -17,10; K4 -16,10; K5 -15,10; K6 -14,10; K7 -13,10; K8 -12,10; K9 -11,10; K10 -10,10; K11 -9,10; K12 -8,10; K13 -7,10; K14 -6,10; K15 -5,10; K16 -4,10; K17 -3,10; K18 -2,10; K19 -1,10; K20 0,10; K21 1,10; K22 2,10; K23 3,10; K24 4,10; K25 5,10; K26 6,10; L1 -19,9; L2 -18,9; L3 -17,9; L4 -16,9; L5 -15,9; L6 -14,9; L7 -13,9; L8 -12,9; L9 -11,9; L10 -10,9; L11 -9,9; L12 -8,9; L13 -7,9; L14 -6,9; L15 -5,9; L16 -4,9; L17 -3,9; L18 -2,9; L19 -1,9; L20 0,9; L21 1,9; L22 2,9; L23 3,9; L24 4,9; L25 5,9; L26 6,9; M1 -19,8; M2 -18,8; M3 -17,8; M4 -16,8; M5 -15,8; M6 -14,8; M7 -13,8; M8 -12,8; M9 -11,8; M10 -10,8; M11 -9,8; M12 -8,8; M13 -7,8; M14 -6,8; M15 -5,8; M16 -4,8; M17 -3,8; M18 -2,8; M19 -1,8; M20 0,8; M21 1,8; M22 2,8; M23 3,8; M24 4,8; M25 5,8; M26 6,8; N1 -19,7; N2 -18,7; N3 -17,7; N4 -16,7; N5 -15,7; N6 -14,7; N7 -13,7; N8 -12,7; N9 -11,7; N10 -10,7; N11 -9,7; N12 -8,7; N13 -7,7; N14 -6,7; N15 -5,7; N16 -4,7; N17 -3,7; N18 -2,7; N19 -1,7; N20 0,7; N21 1,7; N22 2,7; N23 3,7; N24 4,7; N25 5,7; N26 6,7; P1 -19,6; P2 -18,6; P3 -17,6; P4 -16,6; P5 -15,6; P6 -14,6; P7 -13,6; P8 -12,6; P9 -11,6; P10 -10,6; P11 -9,6; P12 -8,6; P13 -7,6; P14 -6,6; P15 -5,6; P16 -4,6; P17 -3,6; P18 -2,6; P19 -1,6; P20 0,6; P21 1,6; P22 2,6; P23 3,6; P24 4,6; P25 5,6; P26 6,6; R1 -19,5; R2 -18,5; R3 -17,5; R4 -16,5; R5 -15,5; R6 -14,5; R7 -13,5; R8 -12,5; R9 -11,5; R10 -10,5; R11 -9,5; R12 -8,5; R13 -7,5; R14 -6,5; R15 -5,5; R16 -4,5; R17 -3,5; R18 -2,5; R19 -1,5; R20 0,5; R21 1,5; R22 2,5; R23 3,5; R24 4,5; R25 5,5; R26 6,5; T1 -19,4; T2 -18,4; T3 -17,4; T4 -16,4; T5 -15,4; T6 -14,4; T7 -13,4; T8 -12,4; T9 -11,4; T10 -10,4; T11 -9,4; T12 -8,4; T13 -7,4; T14 -6,4; T15 -5,4; T16 -4,4; T17 -3,4; T18 -2,4; T19 -1,4; T20 0,4; T21 1,4; T22 2,4; T23 3,4; T24 4,4; T25 5,4; T26 6,4; U1 -19,3; U2 -18,3; U3 -17,3; U4 -16,3; U5 -15,3; U6 -14,3; U7 -13,3; U8 -12,3; U9 -11,3; U10 -10,3; U11 -9,3; U12 -8,3; U13 -7,3; U14 -6,3; U15 -5,3; U16 -4,3; U17 -3,3; U18 -2,3; U19 -1,3; U20 0,3; U21 1,3; U22 2,3; U23 3,3; U24 4,3; U25 5,3; U26 6,3; V1 -19,2; V2 -18,2; V3 -17,2; V4 -16,2; V5 -15,2; V6 -14,2; V7 -13,2; V8 -12,2; V9 -11,2; V10 -10,2; V11 -9,2; V12 -8,2; V13 -7,2; V14 -6,2; V15 -5,2; V16 -4,2; V17 -3,2; V18 -2,2; V19 -1,2; V20 0,2; V21 1,2; V22 2,2; V23 3,2; V24 4,2; V25 5,2; V26 6,2; W1 -19,1; W2 -18,1; W3 -17,1; W4 -16,1; W5 -15,1; W6 -14,1; W7 -13,1; W8 -12,1; W9 -11,1; W10 -10,1; W11 -9,1; W12 -8,1; W13 -7,1; W14 -6,1; W15 -5,1; W16 -4,1; W17 -3,1; W18 -2,1; W19 -1,1; W20 0,1; W21 1,1; W22 2,1; W23 3,1; W24 4,1; W25 5,1; W26 6,1; Y1 -19,0; Y2 -18,0; Y3 -17,0; Y4 -16,0; Y5 -15,0; Y6 -14,0; Y7 -13,0; Y8 -12,0; Y9 -11,0; Y10 -10,0; Y11 -9,0; Y12 -8,0; Y13 -7,0; Y14 -6,0; Y15 -5,0; Y16 -4,0; Y17 -3,0; Y18 -2,0; Y19 -1,0; Y20 0,0; Y21 1,0; Y22 2,0; Y23 3,0; Y24 4,0; Y25 5,0; Y26 6,0